# EAGLE library part TPS6302 (library Eagle_CAD_parts)
Features Inputvoltagerange:1.8 V to 5.5 V Adjustableoutputvoltage:1.2 V to 5.5 V Outputcurrentfor VIN> 2.5 V, VOUT= 3.3 V: 2 A Highefficiencyoverthe entireload range– Operatingquiescentcurrent:25 μA– Powersavemodewith modeselection Averagecurrentmodebuck-boostarchitecture– Automatictransitionbetweenmodes– Fixedfrequencyoperationat 2.4 MHz– Synchronizationpossible Powergoodoutput Safetyand robustoperationfeatures– Overtemperature,overvoltageprotection– Loaddisconnectduringshutdown Create a custom design using the: - TPS63020 (Adjustable Vout) with WEBENCH Power Designer - TPS63021 (3.3V FIX Vout) with WEBENCH Power Designer
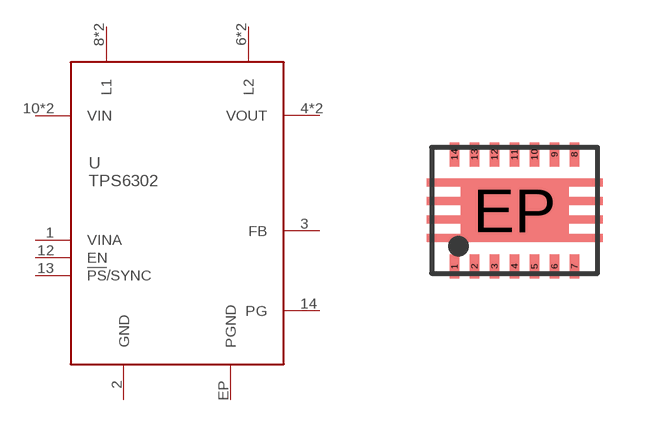
[diagram p73: symbol with the pads of 14_VSON; footprint 14_VSON]

Designator prefix U

## TPS63020DSJR (DIGIKEY_PART_NUMBER: 296-36491-1-ND; MANUFACTURER_PART_NUMBER: TPS63020DSJR)  [14_VSON]
1  VINA
2  GND
3  FB
4  VOUT
5  VOUT
6  L2
7  L2
8  L1
9  L1
10  VIN
11  VIN
12  EN
13  !PS!/SYNC
14  PG
EP  PGND

## TPS63021DSJR (DIGIKEY_PART_NUMBER: 296-27259-1-ND; MANUFACTURER_PART_NUMBER: TPS63021DSJR)  [14_VSON]
Pads as for 14_VSON

## Footprint 14_VSON (pad centres in mm)
smd 0.24 x 0.6: 1 -1.5,-1.4; 2 -1,-1.4; 3 -0.5,-1.4; 4 0,-1.4; 5 0.5,-1.4; 6 1,-1.4; 7 1.5,-1.4; 8 1.5,1.4; 9 1,1.4; 10 0.5,1.4; 11 0,1.4; 12 -0.5,1.4; 13 -1,1.4; 14 -1.5,1.4
smd 2.7 x 1.58: EP 0,0